# EAGLE library part BH7824FVM (library rohm)
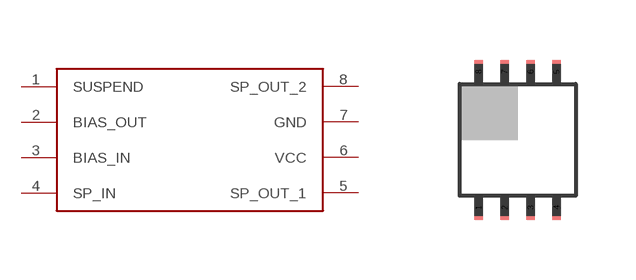
[diagram p7: symbol with the pads of BH7824FVM; footprint BH7824FVM]

Designator prefix -

## BH7824FVM  [BH7824FVM]
1  SUSPEND
2  BIAS_OUT
3  BIAS_IN
4  SP_IN
5  SP_OUT_1
6  VCC
7  GND
8  SP_OUT_2

## Footprint BH7824FVM (pad centres in mm)
smd 0.22 x 0.6: 1 -0.975,-1.7; 2 -0.325,-1.7; 3 0.325,-1.7; 4 0.975,-1.7; 5 0.975,1.7; 6 0.325,1.7; 7 -0.325,1.7; 8 -0.975,1.7